# Altium schematic symbol library F_PTC.SchLib: 1 symbol
Pins are listed as number, name and electrical type; pins without a type are passive.

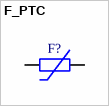
[diagram p0: symbol F_PTC]

## F_PTC
designator F?  (value not drawn)
pins: 1, 2